# Altium schematic symbol library SCH - PASSIVES - INDUCTOR.SCHLIB: 2 symbols
Pins are listed as number, name and electrical type; pins without a type are passive.

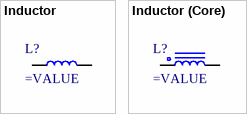
[diagram p0: symbols Inductor to Inductor (Core)]

## Inductor
designator L?
With Core
pins: 1, 2

## Inductor (Core)
designator L?
With Core
pins: 1, 2